# EAGLE library part 4026 (library 40xxDIN)
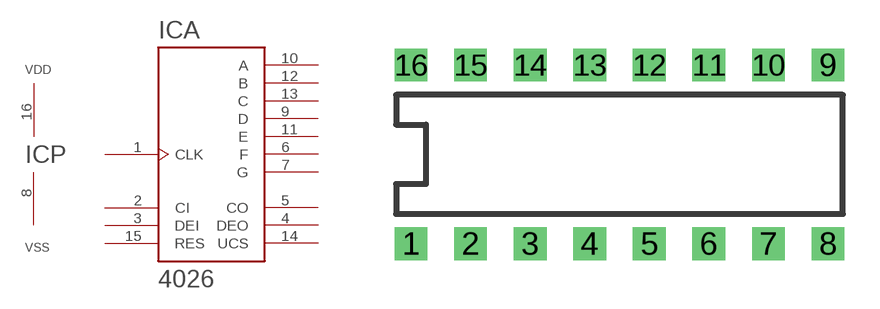
[diagram p15: symbol with the pads of DIL16; footprint DIL16]

Designator prefix IC; gates A=4026 P=PWRN

## 4026  [DIL16]
1  A:CLK  in
2  A:CI  in
3  A:DEI  in
4  A:DEO  out
5  A:CO  out
6  A:F  out
7  A:G  out
8  P:VSS  pwr
9  A:D  out
10  A:A  out
11  A:E  out
12  A:B  out
13  A:C  out
14  A:UCS  out
15  A:RES  in
16  P:VDD  pwr

## Footprint DIL16 (pad centres in mm)
drill 0.8 pad 1.397 square: 1 0,0; 2 2.54,0; 3 5.08,0; 4 7.62,0; 5 10.16,0; 6 12.7,0; 7 15.24,0; 8 17.78,0; 9 17.78,7.62; 10 15.24,7.62; 11 12.7,7.62; 12 10.16,7.62; 13 7.62,7.62; 14 5.08,7.62; 15 2.54,7.62; 16 0,7.62